# Altium schematic symbol library ADA-RGB_1655-4.SchLib: 1 symbol
Pins are listed as number, name and electrical type; pins without a type are passive.

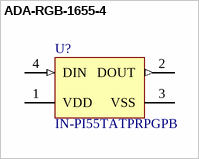
[diagram p0: symbol ADA-RGB-1655-4]

## ADA-RGB-1655-4
designator U?, comment IN-PI55TATPRPGPB
Intelligent Control LED Integrated Light Source, 3.5 to 5.3 V, -25 to 80 degC, 4-Pin SMD, RoHS, Tape and Reel; Manufacturer: Inolux; PartDescription: ADDRESS LED DISC SERIAL RGB 1=10; Configuration: Discrete; Series: Neopixel Like; Interface: -; Package Description: 4-Pin Surface Mount Device, Body 5 x 5 mm; Color: Red,Green,Blue(RGB); Category: Optoelectronics; Controller Type: -; Mounting Type: SurfaceMount; Size / Dimension: 5.00mmLx5.00mmW; Family: Addressable,Specialty; Supplier 1: Digi-Key; Supplier Part Number 1: 1528-1104-ND; PartNumber: IN-PI55TATPRPGPB; Package Type: 4 SMD; Supplier 2: Digi-Key; Supplier Part Number 2: 1830-1204-1-ND
footprint ADA-RGB-1655_V (SMD, 4-Leads, Body 5x5mm)
footprint ADA-RGB-1655_V (SMD, 4-Leads, Body 5x5mm)
pins: 1 VDD (power), 2 DOUT (out), 3 VSS (power), 4 DIN (in)